# Altium footprint library SMD PLCC.PcbLib: 1 footprints
Each footprint in its own frame and in the unit in brackets; x right, y up, seen from the top. Pads: shape width x height; smd on the part's side, far side on the other; paste and mask are expansions set on the pad; w line width, h text height; cw(c..) or ccw(c..) is an arc to the next point about the centre after c.
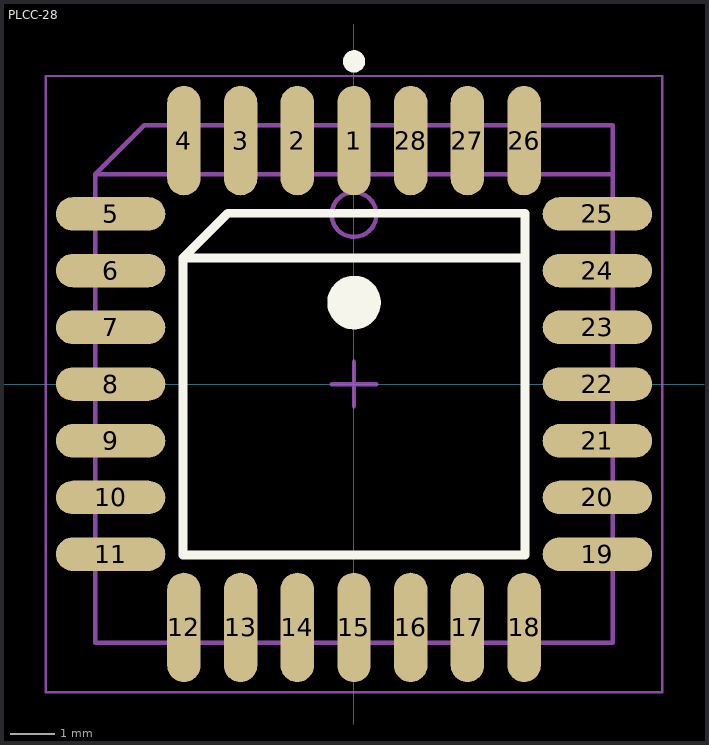
[diagram p0: the footprint, top view; thin cyan lines are the x and y axes]

## PLCC-28 [mm] "Leaded Chip Carrier, 28-Leads, Body 12,45x12,45mm, Pitch 1,270mm, IPC Medium Density"
height 4.3
pads (28):
  oval 0.75x2.45 smd: 1(0,5.45) 2(-1.27,5.45) 3(-2.54,5.45) 4(-3.81,5.45) 12(-3.81,-5.45) 13(-2.54,-5.45) 14(-1.27,-5.45) 15(0,-5.45) 16(1.27,-5.45) 17(2.54,-5.45) 18(3.81,-5.45) 26(3.81,5.45) 27(2.54,5.45) 28(1.27,5.45)
  oval 2.45x0.75 smd: 5(-5.45,3.81) 6(-5.45,2.54) 7(-5.45,1.27) 8(-5.45,0) 9(-5.45,-1.27) 10(-5.45,-2.54) 11(-5.45,-3.81) 19(5.45,-3.81) 20(5.45,-2.54) 21(5.45,-1.27) 22(5.45,0) 23(5.45,1.27) 24(5.45,2.54) 25(5.45,3.81)
Top Overlay:
  circle w0.25: c0,7.225 r0.125
  circle w0.6: c0,1.825 r0.3
  lines w0.2: 3.825,2.825 -3.825,2.825 ; -3.825,2.825 -2.825,3.825 3.825,3.825 3.825,-3.825 -3.825,-3.825 -3.825,2.825
Mechanical 13:
  circle w0.1: c0,3.795 r0.5
  lines w0.1: 5.795,4.695 -5.795,4.695 ; -5.795,4.695 -5.795,-5.795 5.795,-5.795 5.795,5.795 -4.695,5.795 -5.795,4.695
Mechanical 16:
  lines w0.05: -6.9,-6.9 -6.9,6.9 6.9,6.9 6.9,-6.9 -6.9,-6.9
  lines w0.1: -0.5,0 0.5,0 ; 0,-0.5 0,0.5
3D body: height 4.3, standoff 0.51, extent -5.795,-5.795 5.795,5.795